# Altium schematic symbol library CONNECT.SchLib: 8 symbols
Pins are listed as number, name and electrical type; pins without a type are passive.

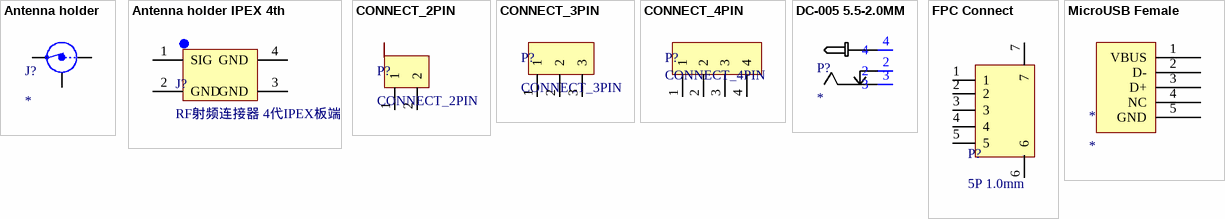
[diagram p0: symbols Antenna holder to MicroUSB Female]

## Antenna holder
designator J?
Coaxial Connector with Switch
footprint Antenna holder
pins: 1 IN, 2 Shield, 3 OUT

## Antenna holder IPEX 4th
designator J?, comment RF射频连接器 4代IPEX板端天线座
ComponentLink1Description: 立创; ComponentLink1URL: https://item.szlcsc.com/998519.html
footprint ANTENNA HOLDER IPEX 4TH
pins: 1 SIG, 2 GND, 3 GND, 4 GND

## CONNECT_2PIN
designator P?
欧式接线端子 间距5MM; ComponentLink1Description: 链接; ComponentLink1URL: https://item.szlcsc.com/8969.html
footprint CONNECT_2PIN
pins: 1, 2

## CONNECT_3PIN
designator P?
欧式接线端子 间距5MM
pins: 1, 2, 3

## CONNECT_4PIN
designator P?
欧式接线端子 间距5MM; ComponentLink1Description: 链接; ComponentLink1URL: https://item.szlcsc.com/8969.html
footprint CONNECT_4PIN
pins: 1, 2, 3, 4

## DC-005 5.5-2.0MM
designator P?
DC-005 5.5-2.0MM 铁材质; ComponentLink1Description: 立创; ComponentLink1URL: https://item.szlcsc.com/16896.html
footprint DC-005 (DC Power jack)
pins: 2, 3, 4

## FPC Connect
designator P?, comment 5P 1.0mm
AFA01-S05FCA-00; ComponentLink1Description: 立创; ComponentLink1URL: https://item.szlcsc.com/254012.html
footprint FPC 1.00MM CONNECTOR SMT
pins: 1, 2, 3, 4, 5, 6, 7

## MicroUSB Female
designator *
footprint MicroUSB Female
pins: 1 VBUS, 2 D-, 3 D+, 4 NC, 5 GND